# EAGLE library part TUSB3410 (library howell)
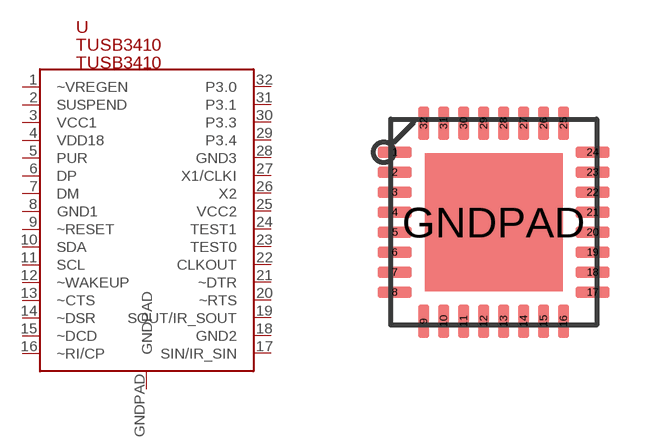
[diagram p4: symbol with the pads of VQFN32; footprint VQFN32]

Designator prefix -

## TUSB3410  [VQFN32]
1  ~VREGEN
2  SUSPEND
3  VCC1
4  VDD18
5  PUR
6  DP
7  DM
8  GND1
9  ~RESET
10  SDA
11  SCL
12  ~WAKEUP
13  ~CTS
14  ~DSR
15  ~DCD
16  ~RI/CP
17  SIN/IR_SIN
18  GND2
19  SOUT/IR_SOUT
20  ~RTS
21  ~DTR
22  CLKOUT
23  TEST0
24  TEST1
25  VCC2
26  X2
27  X1/CLKI
28  GND3
29  P3.4
30  P3.3
31  P3.1
32  P3.0
GNDPAD  GNDPAD

## Footprint VQFN32 (pad centres in mm)
smd 0.85 x 0.28: 1 -2.475,1.75; 2 -2.475,1.25; 3 -2.475,0.75; 4 -2.475,0.25; 5 -2.475,-0.25; 6 -2.475,-0.75; 7 -2.475,-1.25; 8 -2.475,-1.75; 17 2.475,-1.75; 18 2.475,-1.25; 19 2.475,-0.75; 20 2.475,-0.25; 21 2.475,0.25; 22 2.475,0.75; 23 2.475,1.25; 24 2.475,1.75
smd 0.28 x 0.85: 9 -1.75,-2.475; 10 -1.25,-2.475; 11 -0.75,-2.475; 12 -0.25,-2.475; 13 0.25,-2.475; 14 0.75,-2.475; 15 1.25,-2.475; 16 1.75,-2.475; 25 1.75,2.475; 26 1.25,2.475; 27 0.75,2.475; 28 0.25,2.475; 29 -0.25,2.475; 30 -0.75,2.475; 31 -1.25,2.475; 32 -1.75,2.475
smd 3.45 x 3.45: GNDPAD 0,0